# Altium footprint library bzykacz.PcbLib: 1 footprints
Each footprint in its own frame and in the unit in brackets; x right, y up, seen from the top. Pads: shape width x height; smd on the part's side, far side on the other; paste and mask are expansions set on the pad; w line width, h text height; cw(c..) or ccw(c..) is an arc to the next point about the centre after c.
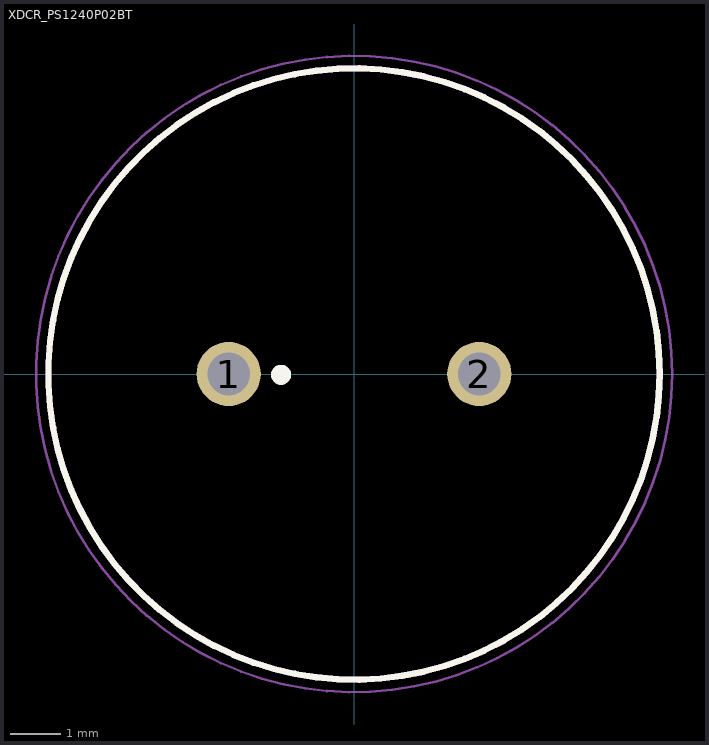
[diagram p0: the footprint, top view; thin cyan lines are the x and y axes]

## XDCR_PS1240P02BT [mm]
pads (2):
  round 1.28 hole 0.85: 1(-2.5,0) 2(2.5,0)
Top Overlay:
  circle w0.2: c-1.455,-0.016 r0.1
  circle w0.127: c0,0 r6.1
Mechanical 13:
  circle w0.2: c-1.455,-0.016 r0.1
  circle w0.127: c0,0 r6.1
Mechanical 15:
  circle w0.05: c0,0 r6.35